# Altium schematic symbol library V_4.SchLib: 5 symbols
Pins are listed as number, name and electrical type; pins without a type are passive.

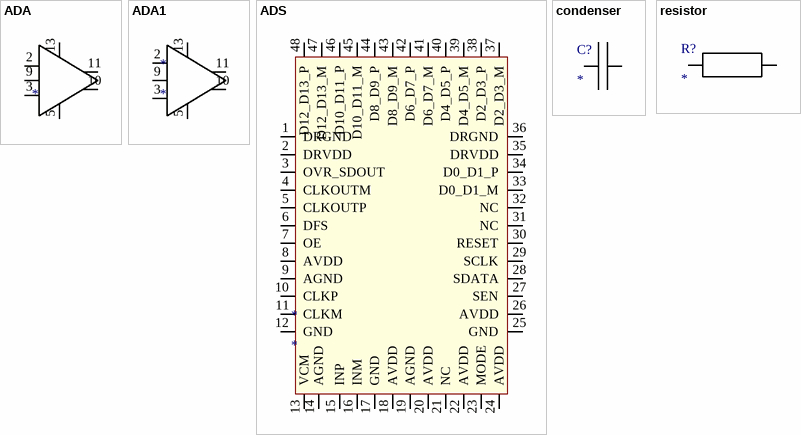
[diagram p0: symbols ADA to resistor]

## ADA
designator ?
pins: 2, 3 -, 5 116, 9, 10 15, 11 14, 13 115

## ADA1
designator *
footprint ADA
pins: 2 50, 3 51, 5 53, 9 49, 10 55, 11 54, 13 52

## ADS
designator *
footprint ADS
pins: 1 DRGND, 2 DRVDD, 3 OVR_SDOUT, 4 CLKOUTM, 5 CLKOUTP, 6 DFS, 7 OE, 8 AVDD, 9 AGND, 10 CLKP, 11 CLKM, 12 GND, 13 VCM, 14 AGND, 15 INP, 16 INM, 17 GND, 18 AVDD, 19 AGND, 20 AVDD, 21 NC, 22 AVDD, 23 MODE, 24 AVDD, 25 GND, 26 AVDD, 27 SEN, 28 SDATA, 29 SCLK, 30 RESET, 31 NC, 32 NC, 33 D0_D1_M, 34 D0_D1_P, 35 DRVDD, 36 DRGND, 37 D2_D3_M, 38 D2_D3_P, 39 D4_D5_M, 40 D4_D5_P, 41 D6_D7_M, 42 D6_D7_P, 43 D8_D9_M, 44 D8_D9_P, 45 D10_D11_M, 46 D10_D11_P, 47 D12_D13_M, 48 D12_D13_P

## condenser
designator C?
footprint condenser
pins: 2, 3

## resistor
designator R?
footprint resistor
pins: 2, 3